# Altium schematic symbol library X322525MSB4SI.Schlib: 1 symbol
Pins are listed as number, name and electrical type; pins without a type are passive.

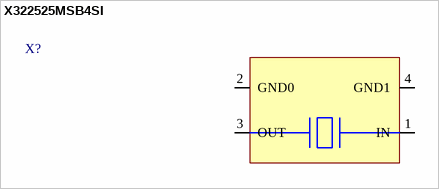
[diagram p0: symbol X322525MSB4SI]

## X322525MSB4SI
designator X?
Oscillator
pins: 1 IN, 2 GND0, 3 OUT, 4 GND1